# EAGLE library part DMHA-08G-G (library switch-dil)
DMHA-08G-G DMHA-08 DIP переключатель 8 поз. SMD 2.54мм Ссылка на сайт производителя: Switronic <http://www.switronic.com/>.
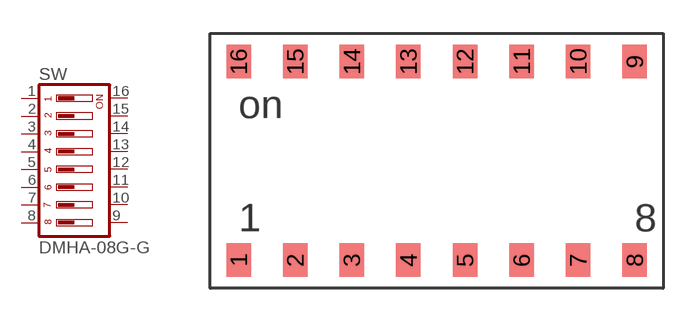
[diagram p67: symbol with the pads of DMHA-08G-G; footprint DMHA-08G-G]

Designator prefix SW

## DMHA-08G-G  [DMHA-08G-G]
1  1  pas
2  2  pas
3  3  pas
4  4  pas
5  5  pas
6  6  pas
7  7  pas
8  8  pas
9  9  pas
10  10  pas
11  11  pas
12  12  pas
13  13  pas
14  14  pas
15  15  pas
16  16  pas

## Footprint DMHA-08G-G (pad centres in mm)
DMHA-08G-G DMHA-08 DIP переключатель 8 поз. SMD 2.54мм (SWD4-8) - производитель: Switronic <http://www.switronic.com/>.
smd 1.1 x 1.5: 1 -8.89,-3.81; 2 -6.35,-3.81; 3 -3.81,-3.81; 4 -1.27,-3.81; 5 1.27,-3.81; 6 3.81,-3.81; 7 6.35,-3.81; 8 8.89,-3.81; 9 8.89,5.09; 10 6.35,5.09; 11 3.81,5.09; 12 1.27,5.09; 13 -1.27,5.09; 14 -3.81,5.09; 15 -6.35,5.09; 16 -8.89,5.09